# Altium schematic symbol library schem_PTT.SchLib: 36 symbols
Pins are listed as number, name and electrical type; pins without a type are passive.

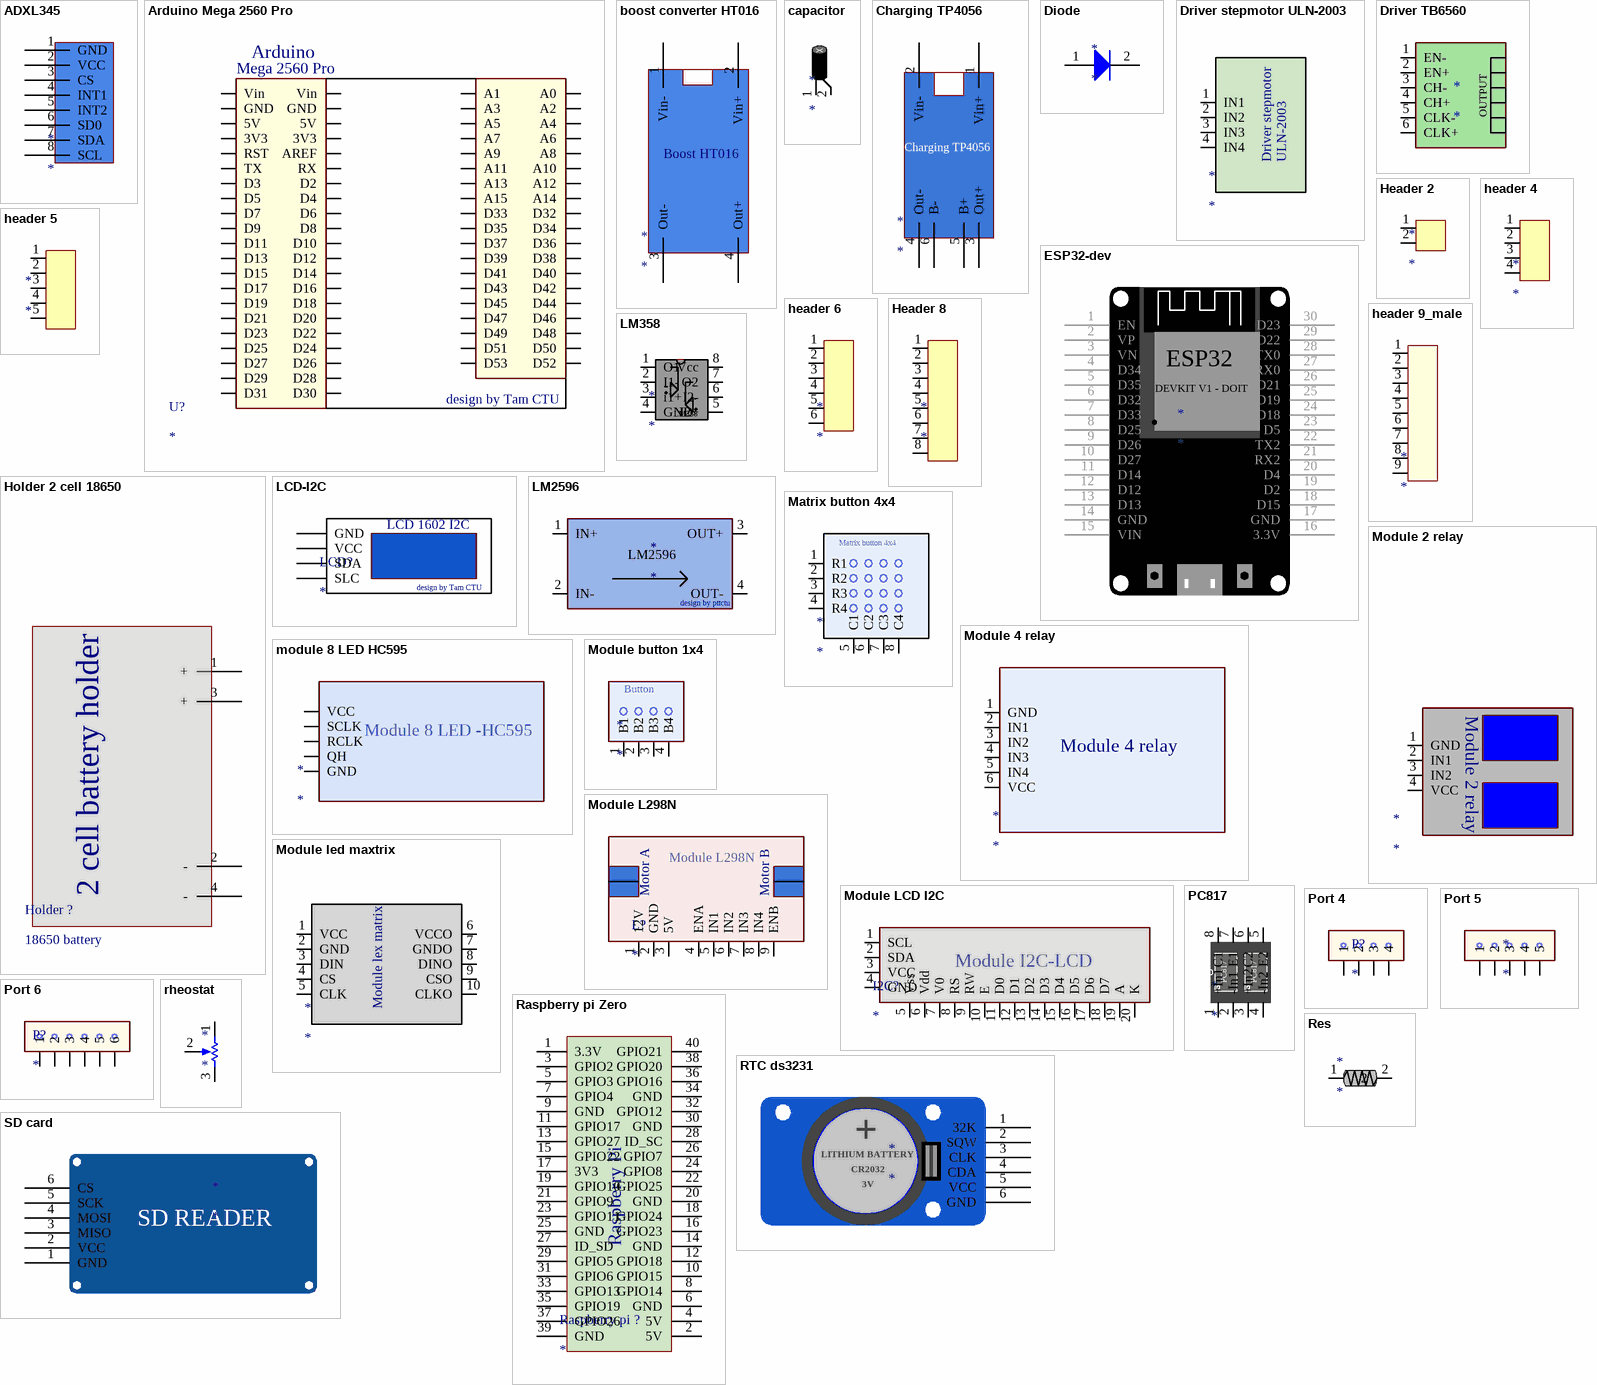
[diagram p0: symbols ADXL345 to SD card]

## ADXL345
designator *
footprint ADXL345
pins: 1 GND, 2 VCC, 3 CS, 4 INT1, 5 INT2, 6 SD0, 7 SDA, 8 SCL

## Arduino Mega 2560 Pro
designator U?
pins: 1 Vin, 2 GND, 3 5V, 4 3V3, 5 RST, 6 TX, 7 D3, 8 D5, 9 D7, 10 D9, 11 D11, 12 D13, 13 D15, 14 D17, 15 D19, 16 D21, 17 D23, 18 D25, 19 D27, 20 D29, 21 D31, 22 Vin, 23 GND, 24 5V, 25 3V3, 26 AREF, 27 RX, 28 D2, 29 D4, 30 D6, 31 D8, 32 D10, 33 D12, 34 D14, 35 D16, 36 D18, 37 D20, 38 D22, 39 D24, 40 D26, 41 D28, 42 D30, 43 A1, 44 A3, 45 A5, 46 A7, 47 A9, 48 A11, 49 A13, 50 A15, 51 D33, 52 D35, 53 D37, 54 D39, 55 D41, 56 D43, 57 D45, 58 D47, 59 D49, 60 D51, 61 D53, 62 A0, 63 A2, 64 A4, 65 A6, 66 A8, 67 A10, 68 A12, 69 A14, 70 D32, 71 D34, 72 D36, 73 D38, 74 D40, 75 D42, 76 D44, 77 D46, 78 D48, 79 D50, 80 D52
text: Arduino; Mega 2560 Pro; design by Tam CTU

## boost converter HT016
designator *
footprint Boost converter HT016
pins: 1 Vin-, 2 Vin+, 3 Out-, 4 Out+
text: Boost HT016

## capacitor
designator *
footprint cap
pins: 1 +, 2

## Charging TP4056
designator *
footprint Charging TP4056
pins: 1 Vin+, 2 Vin-, 3 Out+, 4 Out-, 5 B+, 6 B-

## Diode
designator *
footprint Diode N4007
pins: 1 A, 2 K

## Driver stepmotor ULN-2003
designator *
pins: 1 IN1, 2 IN2, 3 IN3, 4 IN4
text: Driver stepmotor; ULN-2003

## Driver TB6560
designator *
footprint Driver step motor TP6560
pins: 1 EN-, 2 EN+, 3 CH-, 4 CH+, 5 CLK-, 6 CLK+
text: OUTPUT

## ESP32-dev
designator *
footprint PCBComponent_1
pins: 1 EN, 2 VP, 3 VN, 4 D34, 5 D35, 6 D32, 7 D33, 8 D25, 9 D26, 10 D27, 11 D14, 12 D12, 13 D13, 14 GND, 15 VIN, 16 3.3V, 17 GND, 18 D15, 19 D2, 20 D4, 21 RX2, 22 TX2, 23 D5, 24 D18, 25 D19, 26 D21, 27 RX0, 28 TX0, 29 D22, 30 D23
text: ESP32; DEVKIT V1 - DOIT

## Header 2
designator *
footprint Header 2
pins: 1 16, 2 15

## header 4
designator *
footprint Header 4
pins: 1 16, 2 15, 3 11, 4 12

## header 5
designator *
footprint header 5
pins: 1 16, 2 15, 3 11, 4 12, 5 13

## header 6
designator *
footprint Header 6
pins: 1 16, 2 15, 3 11, 4 12, 5 13, 6 14

## Header 8
designator *
pins: 1 16, 2 15, 3 11, 4 12, 5 13, 6 14, 7, 8

## header 9_male
designator *
footprint header 9
pins: 1 41, 2 40, 3 39, 4 38, 5 37, 6 36, 7 35, 8 34, 9 33

## Holder 2 cell 18650
designator Holder ?, comment 18650 battery
footprint 2 cell holder
pins: 1 +, 2 -, 3 +, 4 -
text: 2 cell battery holder

## LCD-I2C
designator LCD?
pins: 1 GND, 2 VCC, 3 SDA, 4 SLC
text: LCD 1602 I2C; design by Tam CTU

## LM358
designator *
footprint LM358
pins: 1 O1, 2 I1-, 3 i1+, 4 GND, 5 I2+, 6 I2-, 7 O2, 8 Vcc

## LM2596
designator *
footprint LM2596
pins: 1 IN+, 2 IN-, 3 OUT+, 4 OUT-
text: design by pttctu

## Matrix button 4x4
designator *
pins: 1 R1, 2 R2, 3 R3, 4 R4, 5 C1, 6 C2, 7 C3, 8 C4

## Module 2 relay
designator *
footprint Module 2RL1
pins: 1 GND, 2 IN1, 3 IN2, 4 VCC

## Module 4 relay
designator *
pins: 1 GND, 2 IN1, 3 IN2, 4 IN3, 5 IN4, 6 VCC

## module 8 LED HC595
designator *
pins: 1 VCC, 2 SCLK, 3 RCLK, 4 QH, 5 GND
text: Module 8 LED -HC595

## Module button 1x4
designator *
pins: 1 B1, 2 B2, 3 B3, 4 B4
text: Button

## Module L298N
designator L?
pins: 1 12V, 2 GND, 3 5V, 4 ENA, 5 IN1, 6 IN2, 7 IN3, 8 IN4, 9 ENB
text: Motor A; Motor B

## Module LCD I2C
designator I2C?
pins: 1 SCL, 2 SDA, 3 VCC, 4 GND, 5 Vss, 6 Vdd, 7 V0, 8 RS, 9 RW, 10 E, 11 D0, 12 D1, 13 D2, 14 D3, 15 D4, 16 D5, 17 D6, 18 D7, 19 A, 20 K
text: Module I2C-LCD

## Module led maxtrix
designator *
footprint 8*8 LED MATRIX
pins: 1 VCC, 2 GND, 3 DIN, 4 CS, 5 CLK, 6 VCCO, 7 GNDO, 8 DINO, 9 CSO, 10 CLKO
text: Module lex matrix

## PC817
designator *
footprint PC817x2
pins: 1 +In1, 2 -In1, 3 +In2, 4 -In2, 5 E2, 6 C2, 7 E1, 8 C1

## Port 4
designator P?
pins: 1, 2, 3, 4

## Port 5
designator *
pins: 1, 2, 3, 4, 5

## Port 6
designator P?
pins: 1, 2, 3, 4, 5, 6

## Raspberry pi Zero
designator Raspberry pi ?
footprint Raspberry pi
pins: 1 3.3V, 2 5V, 3 GPIO2, 4 5V, 5 GPIO3, 6 GND, 7 GPIO4, 8 GPIO14, 9 GND, 10 GPIO15, 11 GPIO17, 12 GPIO18, 13 GPIO27, 14 GND, 15 GPIO22, 16 GPIO23, 17 3V3, 18 GPIO24, 19 GPIO10, 20 GND, 21 GPIO9, 22 GPIO25, 23 GPIO11, 24 GPIO8, 25 GND, 26 GPIO7, 27 ID_SD, 28 ID_SC, 29 GPIO5, 30 GND, 31 GPIO6, 32 GPIO12, 33 GPIO13, 34 GND, 35 GPIO19, 36 GPIO16, 37 GPIO26, 38 GPIO20, 39 GND, 40 GPIO21
text: Raspberry Pi

## Res
designator *
footprint Res
pins: 1, 2

## rheostat
designator *
footprint bienTroCucAo
pins: 1 TOP, 2 TAP, 3 BOT

## RTC ds3231
designator *
pins: 1 32K, 2 SQW, 3 CLK, 4 CDA, 5 VCC, 6 GND
text: +; LITHIUM BATTERY; CR2032; 3V

## SD card
designator *
pins: 1 GND, 2 VCC, 3 MISO, 4 MOSI, 5 SCK, 6 CS
text: SD READER